# Altium footprint library 28Pins_Project_PcbLib.PcbLib: 26 footprints (part 1 of 2)
Each footprint in its own frame and in the unit in brackets; x right, y up, seen from the top. Pads: shape width x height; smd on the part's side, far side on the other; paste and mask are expansions set on the pad; w line width, h text height; cw(c..) or ccw(c..) is an arc to the next point about the centre after c.
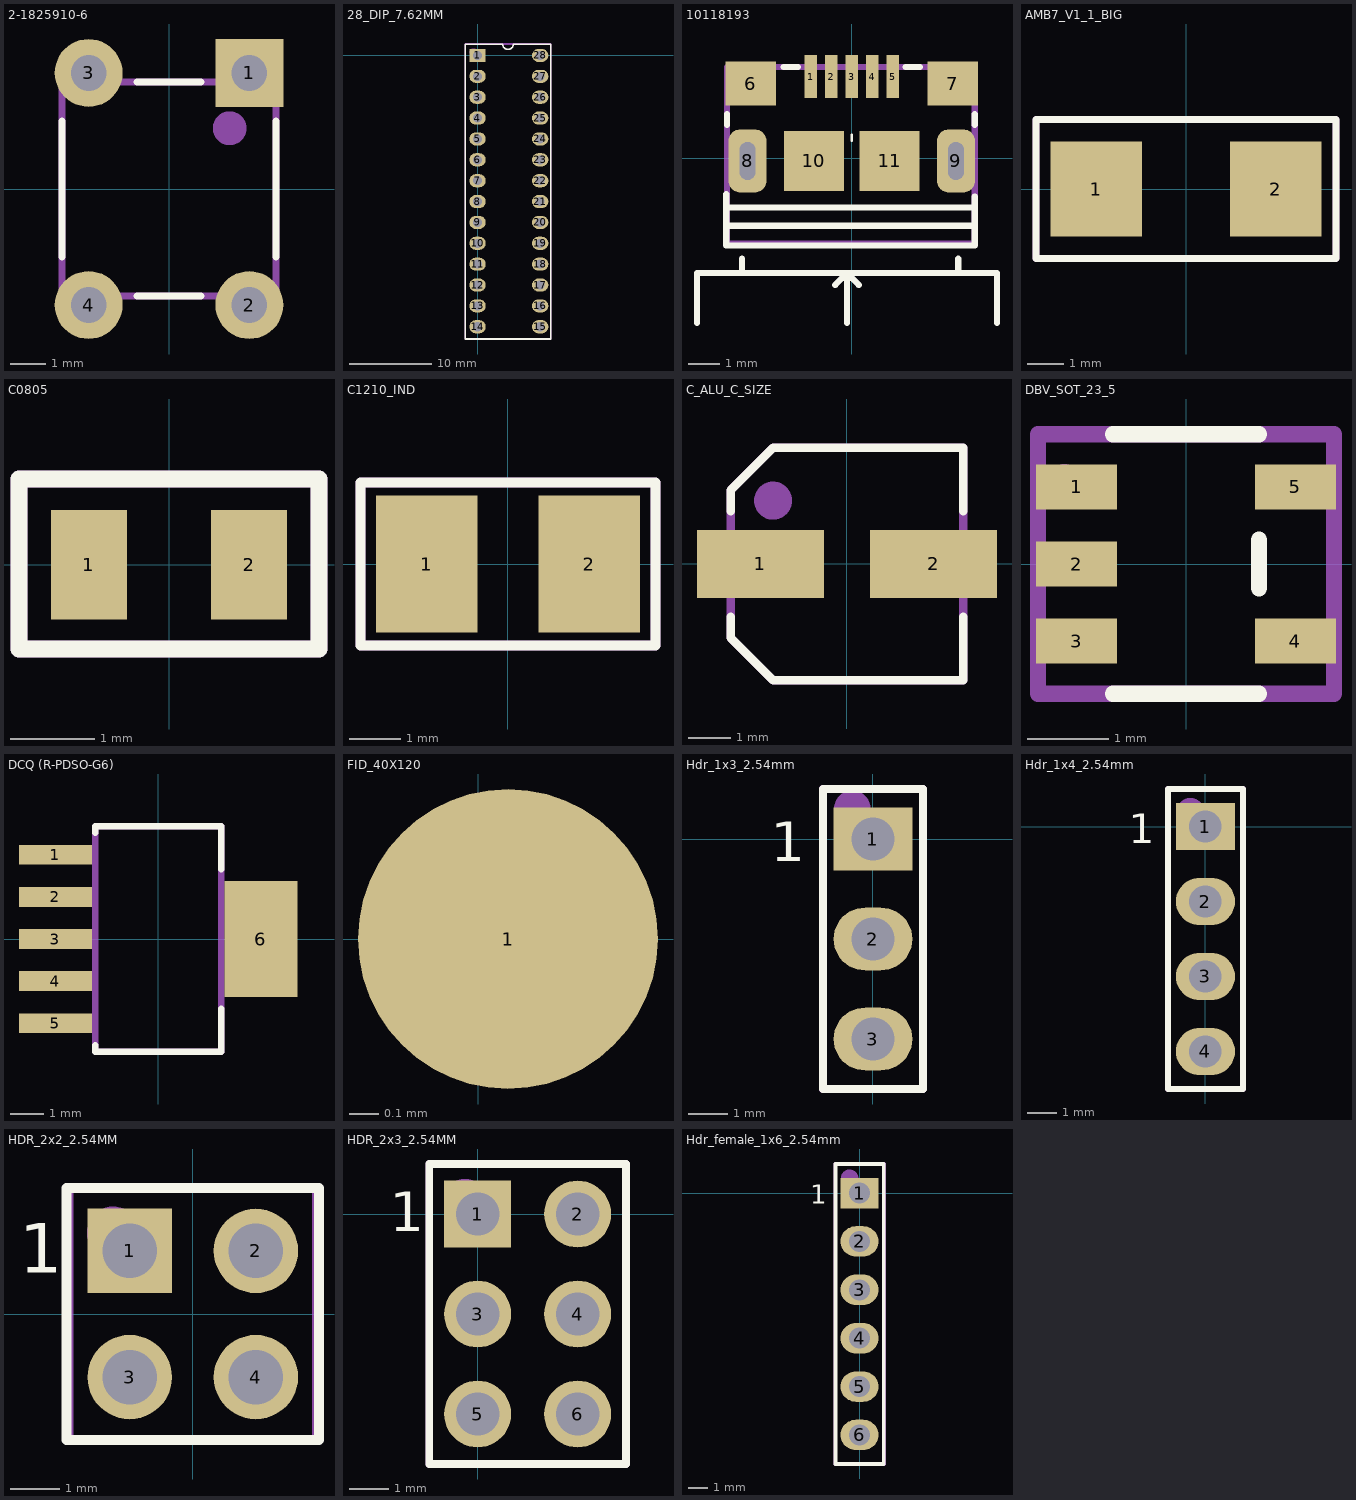
[diagram p0: the footprints below, top view; thin cyan lines are the x and y axes]

## 2-1825910-6 [mm]
pads (4):
  rect 1.9x1.9 hole 1: 1(2.25,3.25)
  round 1.9 hole 1: 2(2.25,-3.25) 3(-2.25,3.25) 4(-2.25,-3.25)
Top Overlay:
  lines w0.2: -3,-1.9 -3,1.9 ; -0.9,-3 0.9,-3 ; -0.9,3 0.9,3 ; 3,-1.9 3,1.9
Top Assembly:
  circle w0.5: c1.7,1.7 r0.224
  lines w0.2: -3,-3 3,-3 3,3 -2.9,3 -3,3 -3,-3
3D body "FSM4JLH(1825910-5).step": height 5, standoff -3.51, extent -2.995,-3.999 2.995,3.8

## 28_DIP_7.62MM [mm]
pads (28):
  rect 2x1.6 hole 1.1: 1(0,0)
  oval 2x1.6 hole 1.1: 2(0,-2.54) 3(0,-5.08) 4(0,-7.62) 5(0,-10.16) 6(0,-12.7) 7(0,-15.24) 8(0,-17.78) 9(0,-20.32) 10(0,-22.86) 11(0,-25.4) 12(0,-27.94) 13(0,-30.48) 14(0,-33.02) 15(7.62,-33.02) 16(7.62,-30.48) 17(7.62,-27.94) 18(7.62,-25.4) 19(7.62,-22.86) 20(7.62,-20.32) 21(7.62,-17.78) 22(7.62,-15.24) 23(7.62,-12.7) 24(7.62,-10.16) 25(7.62,-7.62) 26(7.62,-5.08) 27(7.62,-2.54) 28(7.62,0)
Top Overlay:
  lines w0.2: -1.49,-34.51 8.91,-34.51 ; -1.49,-34.41 -1.49,1.37 3.075,1.37 ccw(c3.71,1.37) 4.345,1.37 8.91,1.37 8.91,-34.41
Top Assembly:
  circle w0.5: c-0.49,0.39 r0.224
  lines w0.2: -1.49,-34.51 8.91,-34.51 8.91,1.39 -1.49,1.39 -1.49,-34.51
  text "'.Designator'" at 4.648,-24.656 h1.52
3D body "28 pin dip.step": height 7.55, standoff 1.33, extent -0.127,-34.551 7.747,1.39

## 28_DIP_7.62mm_SOCKET [mm]
3D body "dil_socket.stp": height 4.2, standoff -3.17, extent -5.04,-18.26 5.06,17.24

## 10118193 [mm]
pads (11):
  rect 0.4x1.35 smd mask+0.05: 1(-1.3,2.588) 2(-0.65,2.588) 3(0,2.588) 4(0.65,2.588) 5(1.3,2.588)
  rect 1.6x1.4 smd: 6(-3.2,2.362) 7(3.2,2.362)
  rrect60% 1.2x2 hole 0.5 slot 1.2 at 90 deg: 8(-3.3,-0.088) 9(3.3,-0.088)
  rect 1.9x1.9 smd: 10(-1.2,-0.088) 11(1.2,-0.088)
Top Overlay:
  lines w0.08: 0,0.55 0,0.75
  lines w0.2: -4.9,-5.212 -4.9,-3.637 4.6,-3.637 4.6,-5.212 ; -3.975,-1.563 3.85,-1.563 ; -3.975,-1.137 -3.975,-2.762 3.9,-2.762 3.9,-1.212 ; -3.95,1.062 -3.95,1.388 ; -3.9,-2.138 3.775,-2.138 ; -3.475,-3.637 -3.475,-3.187 ; -2.15,2.887 -1.7,2.887 ; -0.525,-4.012 -0.15,-3.637 ; -0.15,-5.212 -0.15,-3.637 ; 0.225,-4.012 -0.15,-3.637 ; 1.7,2.887 2.15,2.887 ; 3.375,-3.637 3.375,-3.187 ; 3.9,1.062 3.9,1.388
Top Assembly:
  lines w0.2: -3.95,-2.662 -3.9,-2.712 3.9,-2.712 3.9,2.887 -3.95,2.887 -3.95,-2.662
  text "'.Designator'" at -1.55,-0.129 h0.7
3D body "10118193-0001lfc.stp": height 2.87, standoff -0.73, extent -3.953,-2.773 3.903,2.887

## AMB7_V1_1_BIG [mm]
pads (2):
  rect 2.5x2.6 smd: 1(-2.45,0) 2(2.45,0)
Top Overlay:
  lines w0.2: -4.1,-1.9 -4.1,1.9 4.1,1.9 4.1,-1.9 -4.1,-1.9
Top Assembly:
  lines w0.2: -4.1,-1.9 -4.1,1.9 4.1,1.9 4.1,-1.9 -4.1,-1.9
  text "'.Designator'" at -2.846,-0.638 h1.52
3D body "ABM7.STEP": height 1.41, standoff 0.01, extent -2.997,-1.755 2.997,1.75

## C0805 [mm]
pads (2):
  rect 0.9x1.3 smd: 1(-0.95,0) 2(0.95,0)
Top Overlay:
  lines w0.2: -1.778,-1 -1.778,1.016 1.778,1.016 1.778,-1 -1.778,-1
Top Assembly:
  lines w0.2: -1.778,-1 -1.778,1.016 1.778,1.016 1.778,-1 -1.778,-1
  text "'.Designator'" at -1.3,-0.267 h0.7
3D body "CAPC2012X95N EIA 0805.step": height 1.46, standoff 0.51, extent -1,-0.6 1,0.6
3D body "CAPC2012X95N EIA 0805.step": height 0.96, standoff 0.01, extent -1,-0.6 1,0.6

## C1210_IND [mm]
pads (2):
  rect 2x2.7 smd: 1(-1.6,0) 2(1.6,0)
Top Overlay:
  lines w0.2: -2.9,-1.6 -2.9,1.6 2.9,1.6 2.9,-1.6 -2.9,-1.6
Top Assembly:
  lines w0.2: -2.9,-1.6 -2.9,1.6 2.9,1.6 2.9,-1.6 -2.9,-1.6
  text "'.Designator'" at -2.2,-0.417 h0.7
3D body: height 2.7, standoff -0.01, extent -1.8,-1.25 -1.4,1.25
3D body: height 2.7, standoff -0.01, extent 1.4,-1.25 1.8,1.25
3D body: height 2.7, standoff -0.01, extent -1.4,-1.25 1.4,1.25

## C_ALU_C_SIZE [mm]
pads (2):
  rect 3x1.6 smd: 1(-2.05,0) 2(2.05,0)
Top Overlay:
  lines w0.2: -2.75,-1.25 -2.75,-1.75 -1.75,-2.75 2.75,-2.75 2.75,-1.25 ; -2.75,1.25 -2.75,1.75 -1.75,2.75 2.75,2.75 2.75,1.25
Top Assembly:
  circle w0.5: c-1.75,1.5 r0.2
  lines w0.2: -2.75,-1.75 -2.75,1.75 -1.75,2.75 2.75,2.75 2.75,-2.75 -1.75,-2.75 -2.75,-1.75
  text "'.Designator'" at -1.15,-0.417 h0.7
3D body "capacitor size C.step": height 5.41, standoff -0.01, extent -2.95,-2.65 2.95,2.65

## DBV_SOT_23_5 [mm]
pads (5):
  rect 1x0.55 smd: 1(-1.35,0.95) 2(-1.35,0) 3(-1.35,-0.95) 4(1.35,-0.95) 5(1.35,0.95)
Top Overlay:
  lines w0.2: -0.9,-1.6 0.9,-1.6 ; -0.9,1.6 0.9,1.6 ; 0.9,-0.3 0.9,0.3
Top Assembly:
  circle w0.254: c-1.5,1.025 r0.079
  lines w0.2: -1.825,1.6 -1.825,-1.6 1.825,-1.6 1.825,1.6 -1.8,1.6
  text "'.Designator'" at -1.475,-0.292 h0.7
3D body: height 1.61, standoff -0.01, extent -1.514,-1.525 1.514,1.525

## DCQ (R-PDSO-G6) [mm]
pads (6):
  rect 2.2x0.6 smd: 1(-3.1,2.54) 2(-3.1,1.27) 3(-3.1,0) 4(-3.1,-1.27) 5(-3.1,-2.54)
  rect 2.2x3.5 smd: 6(3.1,0)
Top Overlay:
  lines w0.2: -1.9,-3.2 -1.9,-3.4 1.9,-3.4 1.9,-2.1 ; -1.9,3.2 -1.9,3.4 1.9,3.4 1.9,2.1
Top Assembly:
  lines w0.2: -1.9,-3.4 1.9,-3.4 1.9,3.4 -1.9,3.4 -1.9,-3.4
  text "'.Designator'" at -1.4,-0.367 h0.7
3D body "TPS73701DCQ.step": height 1.79, standoff -0.01, extent -3.63,-3.275 3.63,3.275

## FID_40X120 [mil]
pads (1):
  round 40 smd paste-40 mask+40: 1(3.94,0)

## Hdr_1x3_2.54mm [mm]
pads (3):
  rect 2x1.6 hole 1.1: 1(0,0)
  oval 2x1.6 hole 1.1: 2(0,-2.54) 3(0,-5.08)
Top Overlay:
  lines w0.2: -1.27,-6.35 -1.27,1.27 1.27,1.27 1.27,-6.35 -1.27,-6.35
  text "1" at -2.594,-0.562 h1
Top Assembly:
  circle w0.5: c-0.525,0.775 r0.212
  lines w0.2: -1.275,-6.35 -1.275,1.27 1.275,1.27 1.275,-6.35 -1.275,-6.35
  text "'.Designator'" at 0.508,-5.08 h1.52
3D body "HDR_1x3_White.stp": height 8.39, standoff -3.11, extent -1.135,-6.15 1.275,1.071

## Hdr_1x4_2.54mm [mm]
pads (4):
  rect 2x1.6 hole 1.1: 1(0,0)
  oval 2x1.6 hole 1.1: 2(0,-2.54) 3(0,-5.08) 4(0,-7.62)
Top Overlay:
  lines w0.2: -1.27,-8.89 -1.27,1.27 1.27,1.27 1.27,-8.89 -1.27,-8.89
  text "1" at -2.594,-0.562 h1
Top Assembly:
  circle w0.5: c-0.508,0.508 r0.212
  lines w0.2: -1.275,-8.89 1.275,-8.89 1.275,1.27 -1.275,1.27 -1.275,-8.89
  text "'.Designator'" at 0.588,-7.321 h1.52
3D body "HDR_1x4_White.stp": height 8.39, standoff -3.11, extent -1.205,-8.69 1.205,1.07

## HDR_2x2_2.54MM [mm]
pads (4):
  rect 1.7x1.7 hole 1.1: 1(-1.27,1.27)
  round 1.7 hole 1.1: 2(1.27,1.27) 3(-1.27,-1.27) 4(1.27,-1.27)
Top Overlay:
  lines w0.2: -2.54,-2.54 -2.54,2.54 2.54,2.54 2.54,-2.54 -2.54,-2.54
  text "1" at -3.5,0.83 h1
Top Assembly:
  circle w0.5: c-1.6,1.63 r0.283
  lines w0.2: -2.5,-2.54 -2.5,2.54 2.5,2.54 2.5,-2.54 -2.5,-2.54
  text "'.Designator'" at 0.762,-1.778 h1.52
3D body "961204-6404-XX.stp": height 8.01, standoff -3.29, extent -2.54,-2.5 2.54,2.5

## HDR_2x3_2.54MM [mm]
pads (6):
  rect 1.7x1.7 hole 1.1: 1(0,0)
  round 1.7 hole 1.1: 2(2.54,0) 3(0,-2.54) 4(2.54,-2.54) 5(0,-5.08) 6(2.54,-5.08)
Top Overlay:
  lines w0.2: -1.23,-6.35 -1.23,1.27 3.77,1.27 3.77,-6.35 -1.23,-6.35
  text "1" at -2.23,-0.44 h1
Top Assembly:
  circle w0.5: c-0.33,0.36 r0.283
  lines w0.2: -1.23,-6.35 -1.23,1.27 3.77,1.27 3.77,-6.35 -1.23,-6.35
  text "'.Designator'" at 1.908,-5.986 h1.52
3D body "961206-6404-XX.stp": height 8.01, standoff -3.29, extent -1.23,-6.35 3.77,1.27

## Hdr_female_1x6_2.54mm [mm]
pads (6):
  rect 2x1.6 hole 1.1: 1(0,0)
  oval 2x1.6 hole 1.1: 2(0,-2.54) 3(0,-5.08) 4(0,-7.62) 5(0,-10.16) 6(0,-12.7)
Top Overlay:
  lines w0.2: -1.27,-14.224 1.27,-14.224 1.27,1.524 -1.27,1.524 -1.27,-14.224
  text "1" at -2.594,-0.562 h1
Top Assembly:
  circle w0.5: c-0.525,0.775 r0.212
  lines w0.2: 1.275,-14.225 -1.275,-14.225 -1.275,1.525 1.275,1.525 ; 1.275,-14.225 1.275,-14.225 ; 1.275,-14.225 1.275,1.525 ; 1.275,1.525 1.275,1.525
  text "'.Designator'" at 0.513,-13.971 h1.52
3D body "m20-7820646_asm.stp": height 8.51, standoff -2.99, extent -1.25,-14.17 1.25,1.47